# Altium integrated library CC0402BRNPO9BN3R3.IntLib: 1 symbol
Pins are listed as number, name and electrical type; pins without a type are passive.

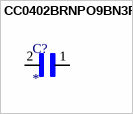
[diagram p0: symbol CC0402BRNPO9BN3R3]

## CC0402BRNPO9BN3R3
designator C?
0402 3.3 pF 50 V Â±0.1 pF Tolerance NP0 SMT Multilayer Ceramic Capacitor; MF: Yageo; MP: CC0402BRNPO9BN3R3; Price: None; Availability: Good; SnapEDA_Link: https://www.snapeda.com/parts/CC0402BRNPO9BN3R3/Yageo/view-part/1821368/?ref=snap; Value: *; Check_prices: https://www.snapeda.com/parts/CC0402BRNPO9BN3R3/Yageo/view-part/1821368/?ref=eda; Purchase-URL: https://pricing.snapeda.com/search/part/CC0402BRNPO9BN3R3/?ref=eda; Package: 0402 Yageo
footprint CAPC1005X55N
pins: 1, 2